# Altium footprint library RESC1608X45L30N.PcbLib: 1 footprints
Each footprint in its own frame and in the unit in brackets; x right, y up, seen from the top. Pads: shape width x height; smd on the part's side, far side on the other; paste and mask are expansions set on the pad; w line width, h text height; cw(c..) or ccw(c..) is an arc to the next point about the centre after c.
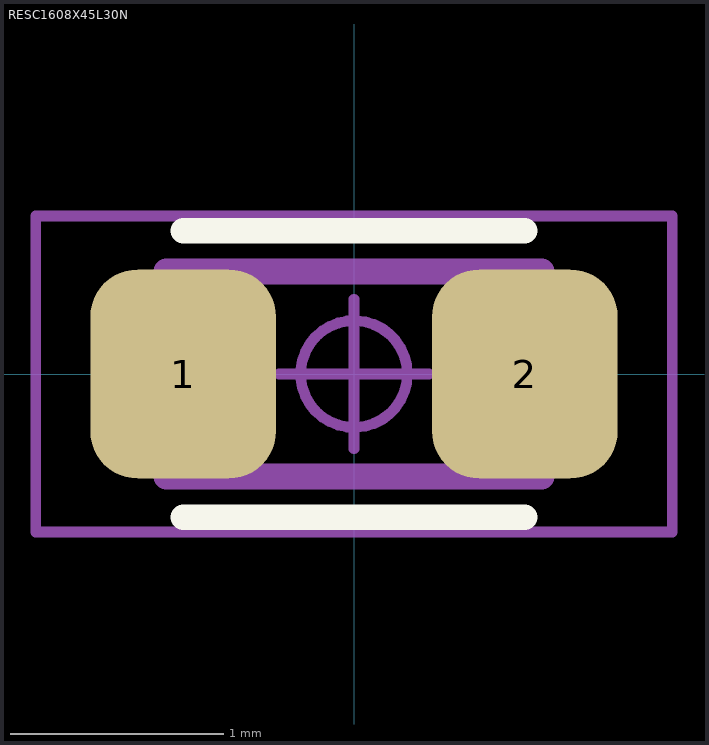
[diagram p0: the footprint, top view; thin cyan lines are the x and y axes]

## RESC1608X45L30N [mm] "Resistor, Chip; 1.60 mm L X 0.85 mm W X 0.45 mm H body"
height 0.45
pads (2):
  rrect51% 0.87x0.98 smd: 1(-0.8,0) 2(0.8,0)
Top Overlay:
  lines w0.12: -0.8,-0.67 0.8,-0.67 ; -0.8,0.67 0.8,0.67
Fab - Detail1, HDI1:
  lines w0.12: -0.88,-0.48 -0.88,0.48 0.88,0.48 0.88,-0.48 -0.88,-0.48
Courtyards/Models - Top:
  circle w0.05: c0,0 r0.25
  lines w0.05: -0.35,0 0.35,0 ; 0,-0.35 0,0.35 ; -1.49,-0.74 -1.49,0.74 1.49,0.74 1.49,-0.74 -1.49,-0.74
3D body: height 0.45, standoff 0, extent -0.8,-0.4 0.8,0.4